# EAGLE library part MICRO-SD-ATOM (library SparkFun-Connectors)
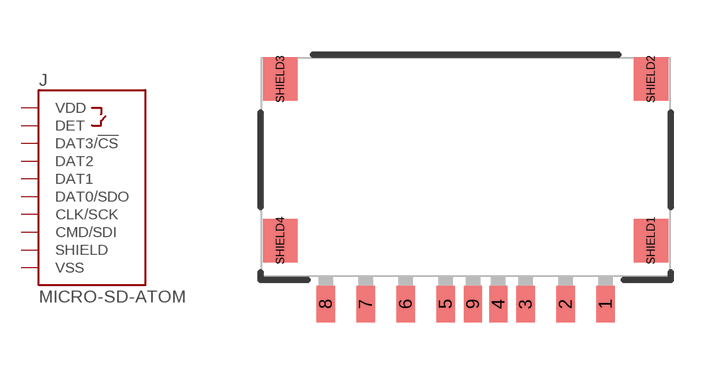
[diagram p74: symbol with the pads of MICROSD_ATOM; footprint MICROSD_ATOM]

Designator prefix J

## MICRO-SD-ATOM (PROD_ID: CONN-20948)  [MICROSD_ATOM]
1  DAT2
2  DAT3/!CS!
3  CMD/SDI
4  VDD
5  CLK/SCK
6  VSS
7  DAT0/SDO
8  DAT1
9  DET
SHIELD1  SHIELD
SHIELD2  SHIELD
SHIELD3  SHIELD
SHIELD4  SHIELD

## Footprint MICROSD_ATOM (pad centres in mm)
smd 0.5 x 1: 1 3.85,-3.975; 2 2.75,-3.975; 3 1.65,-3.975; 4 0.9,-3.975; 5 -0.55,-3.975; 6 -1.65,-3.975; 7 -2.75,-3.975; 8 -3.85,-3.975; 9 0.2,-3.975
smd 0.95 x 1.2: SHIELD1 5.1,-2.225; SHIELD2 5.1,2.225; SHIELD3 -5.1,2.225; SHIELD4 -5.1,-2.225